# Altium schematic symbol library Conn-TRS.SchLib: 1 symbol
Pins are listed as number, name and electrical type; pins without a type are passive.

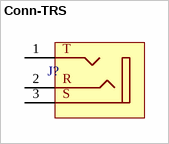
[diagram p0: symbol Conn-TRS]

## Conn-TRS
designator J?  (value not drawn)
pins: 1 T (power), 2 S (power), 3 S (power)
text: R